# EAGLE library part SAMTEC-2X10-FEMALE (library connectors)
Samtec 2x10 SMD Connector Samtec Part #: TFM-110-02-S-D-A-K-TR Recommended Layout: http://www.samtec.com/ftppub/cpdf/TFM-D.PDF created by Blake Robertson (blaker@ieee.org) on 4-22-05 originally created to connect to chipcon 2420 Evaluation Module
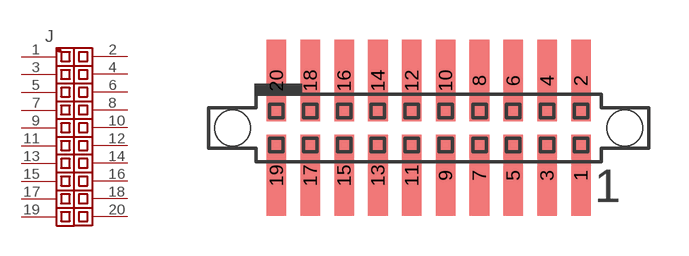
[diagram p4: symbol with the pads of SAMTECH-SFM-2X10; footprint SAMTECH-SFM-2X10]

Designator prefix J

## SAMTEC-2X10-FEMALE  [SAMTECH-SFM-2X10]
1  P$1
2  P$2
3  P$3
4  P$4
5  P$5
6  P$6
7  P$7
8  P$8
9  P$9
10  P$10
11  P$11
12  P$12
13  P$13
14  P$14
15  P$15
16  P$16
17  P$17
18  P$18
19  P$19
20  P$20

## Footprint SAMTECH-SFM-2X10 (pad centres in mm)
smd 0.737 x 3.048: 1 5.715,-1.778; 2 5.715,1.778; 3 4.445,-1.778; 4 4.445,1.778; 5 3.175,-1.778; 6 3.175,1.778; 7 1.905,-1.778; 8 1.905,1.778; 9 0.635,-1.778; 10 0.635,1.778; 11 -0.635,-1.778; 12 -0.635,1.778; 13 -1.905,-1.778; 14 -1.905,1.778; 15 -3.175,-1.778; 16 -3.175,1.778; 17 -4.445,-1.778; 18 -4.445,1.778; 19 -5.715,-1.778; 20 -5.715,1.778
hole 1.346 at -7.366,0
hole 1.346 at 7.366,0